# Altium integrated library Connectors.IntLib: 11 symbols
Pins are listed as number, name and electrical type; pins without a type are passive.

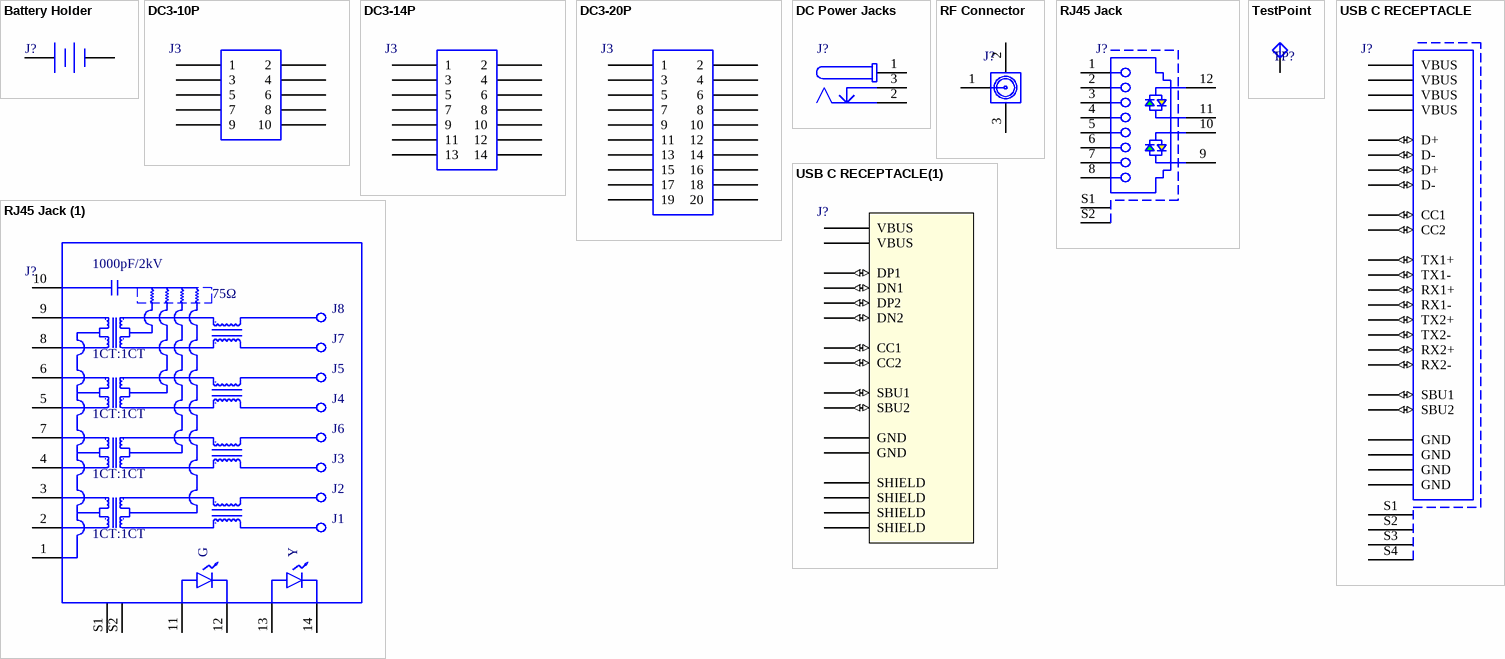
[diagram p0: symbols Battery Holder to USB C RECEPTACLE(1)]

## Battery Holder
designator J?
Battery Holder; Built_By: Gordon Mak; ComponentLink1Description: Manufacturer; ComponentLink1URL: http://www.we-online.de; ComponentLink2Description: Datasheet; ComponentLink2URL: https://katalog.we-online.com/em/datasheet/79578211.pdf
footprint BAT HOLDER (1) (AA)
footprint BAT HOLDER (2) (CR2032)
footprint BAT HOLDER (3) (CR2032)
pins: 1 +, 2 -

## DC3-10P
designator J3
10-Pin Shrouded Header (IDC) Right Angle; Built_By: Gordon Mak
footprint IDC-10 (1)
pins: 1, 2, 3, 4, 5, 6, 7, 8, 9, 10

## DC3-14P
designator J3
14-Pin Shrouded Header (IDC) Right Angle; Built_By: Gordon Mak
footprint IDC-14 (1)
pins: 1, 2, 3, 4, 5, 6, 7, 8, 9, 10, 11, 12, 13, 14

## DC3-20P
designator J3
20-Pin Shrouded Header (IDC) Right Angle; Built_By: Gordon Mak
footprint IDC-20 (1)
pins: 1, 2, 3, 4, 5, 6, 7, 8, 9, 10, 11, 12, 13, 14, 15, 16, 17, 18, 19, 20

## DC Power Jacks
designator J?
DC Power Jack Connector with 4 soldering pads & Pegs WR-DC, Male, Right Angled, SMT, 5 A, 24 V; Built_By: Gordon Mak; ComponentLink1Description: Manufacturer; ComponentLink1URL: http://www.we-online.de; ComponentLink2Description: Datasheet; ComponentLink2URL: http://katalog.we-online.de/em/datasheet/6941xx106102.pdf
footprint DC POWER JACK (1) (THT, 6.4)
footprint DC POWER JACK (2) (SMT, 6.4)
pins: 1, 2, 3

## RF Connector
designator J?
VAO ITEM, MINI RF HEADER; Built_By: Gordon Mak
footprint RF CONNECTOR (1) (IPEX)
pins: 1 SIG, 2 GND, 3 GND

## RJ45 Jack
designator J?
Modular Jack THT Horizontal Shielded With LED; Built_By: Gordon Mak; ComponentLink1Description: Manufacturer; ComponentLink1URL: http://www.we-online.de; ComponentLink2Description: Datasheet; ComponentLink2URL: https://katalog.we-online.com/em/datasheet/615008141321.pdf
footprint RJ45 JACK (1) (Shielded, with LED)
footprint RJ45 JACK (2) (Shielded, with LED)
pins: 1, 2, 3, 4, 5, 6, 7, 8, 9, 10, 11, 12, S1, S2

## RJ45 Jack (1)
designator J?
Modular Jack THT Horizontal Shielded With LED; Built_By: Gordon Mak
footprint RJ45 JACK 2(1)
pins: 1, 2, 3, 4, 5, 6, 7, 8, 9, 10, 11, 12, 13, 14, S1 SHIELD, S2 SHIELD
text: 1000pF/2kV; 75Ω; J8; J7; 1CT:1CT; J5; J4; J6; J3; J2; J1; G; Y

## TestPoint
designator TP?
Test Point
footprint TESTPOINT(1)
footprint TESTPOINT(2)
pins: 1

## USB C RECEPTACLE
designator J?
Universal Serial Bus (USB) I/O Receptacle, Type C, 3.1; Built_By: Gordon Mak
footprint USB C RECEPTACLE (1)
footprint USB C RECEPTACLE (2)
pins: A1 GND, A2 TX1+ (io), A3 TX1- (io), A4 VBUS (power), A5 CC1 (io), A6 D+ (io), A7 D- (io), A8 SBU1 (io), A9 VBUS (power), A10 RX2- (io), A11 RX2+ (io), A12 GND, B1 GND, B2 TX2+ (io), B3 TX2- (io), B4 VBUS (power), B5 CC2 (io), B6 D+ (io), B7 D- (io), B8 SBU2 (io), B9 VBUS (power), B10 RX1- (io), B11 RX1+ (io), B12 GND, S1 SHIELD, S2 SHIELD, S3 SHIELD, S4 SHIELD

## USB C RECEPTACLE(1)
designator J?
Universal Serial Bus (USB) I/O Receptacle, Type C, 2.0; Built_By: Gordon Mak
footprint USB C RECEPTACLE 2(1) (USB 2.0)
pins: A1/B12 GND, A4/B9 VBUS (power), A5 CC1 (io), A6 DP1 (io), A7 DN1 (io), A8 SBU1 (io), B1/A12 GND, B4/A9 VBUS (power), B5 CC2 (io), B6 DP2 (io), B7 DN2 (io), B8 SBU2 (io), SH1 SHIELD, SH2 SHIELD, SH3 SHIELD, SH4 SHIELD